# Altium schematic symbol library USB Female Connector.SchLib: 1 symbol
Pins are listed as number, name and electrical type; pins without a type are passive.

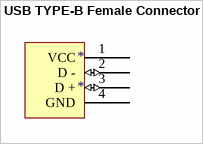
[diagram p0: symbol USB TYPE-B Female Connector]

## USB TYPE-B Female Connector
designator *
pins: 1 VCC (power), 2 D - (io), 3 D + (io), 4 GND (power)